# EAGLE library part PMOD (library PMOD 2)
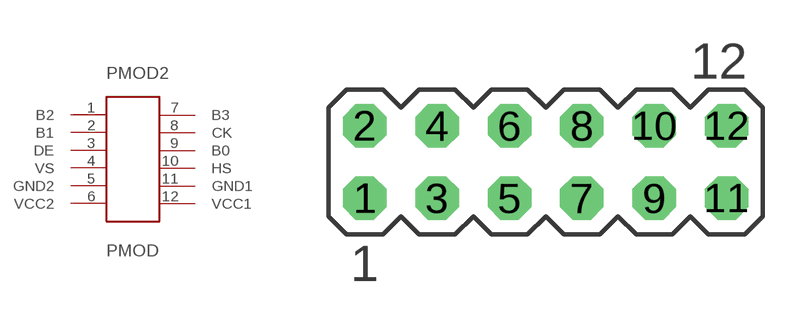
[diagram p0: symbol with the pads of MA06-2; footprint MA06-2]

Designator prefix PMOD2

## PMOD  [MA06-2]
1  B2
2  B1
3  DE
4  VS
5  GND2
6  VCC2
7  B3
8  CK
9  B0
10  HS
11  GND1
12  VCC1

## Footprint MA06-2 (pad centres in mm)
PIN HEADER
drill 1.016 octagon: 1 -6.35,-1.27; 2 -6.35,1.27; 3 -3.81,-1.27; 4 -3.81,1.27; 5 -1.27,-1.27; 6 -1.27,1.27; 7 1.27,-1.27; 8 1.27,1.27; 9 3.81,-1.27; 10 3.81,1.27; 11 6.35,-1.27; 12 6.35,1.27